# EAGLE library part LCD_QDTECH_22 (library blinkinlabs)
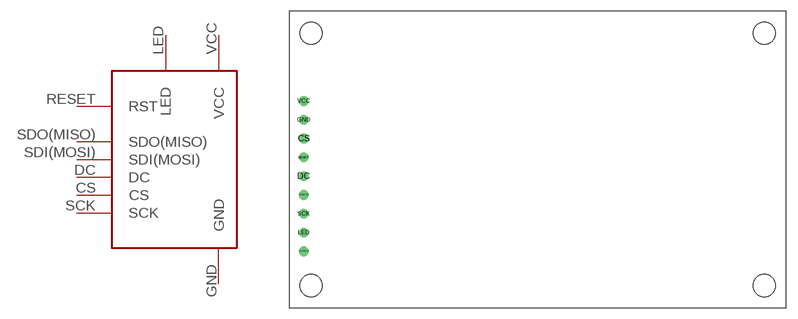
[diagram p3: symbol with the pads of LCD_QDTECH_22; footprint LCD_QDTECH_22]

Designator prefix -

## LCD_QDTECH_22  [LCD_QDTECH_22]
CS  CS
DC  DC
GND  GND
LED  LED
RESET  RST
SCK  SCK
SDI(MOSI)  SDI(MOSI)
SDO(MISO)  SDO(MISO)
VCC  VCC

## Footprint LCD_QDTECH_22 (pad centres in mm)
drill 0.8: CS 2,22.86; DC 2,17.78; GND 2,25.4; LED 2,10.16; RESET 2,20.32; SCK 2,12.7; SDI(MOSI) 2,15.24; SDO(MISO) 2,7.62; VCC 2,27.94
hole 3 at 3,37.1
hole 3 at 64.2,37.1
hole 3 at 64.2,3
hole 3 at 3,3